# EAGLE library part TPS79633 (library zigbit)
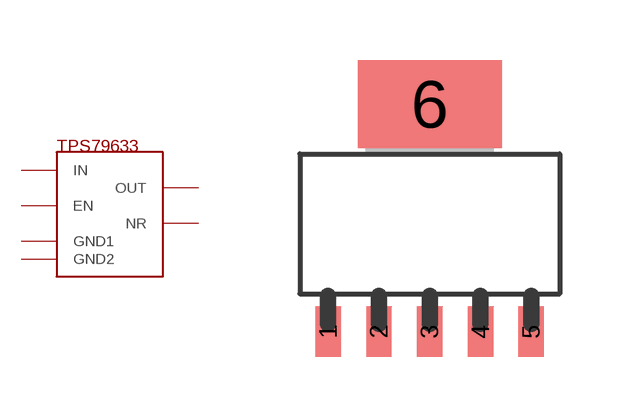
[diagram p2: symbol with the pads of SOT223-5; footprint SOT223-5]

Designator prefix -

## TPS79633  [SOT223-5]
1  EN
2  IN
3  GND1
4  OUT
5  NR
6  GND2

## Footprint SOT223-5 (pad centres in mm)
smd 0.635 x 1.27: 1 -2.54,-2.7; 2 -1.27,-2.7; 3 0,-2.7; 4 1.27,-2.7; 5 2.54,-2.7
smd 3.6 x 2.2: 6 0,3